# Altium schematic symbol library MSP430G2231IPW14R.SchLib: 1 symbol
Pins are listed as number, name and electrical type; pins without a type are passive.

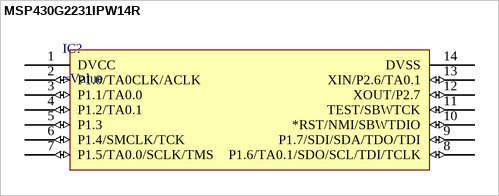
[diagram p0: symbol MSP430G2231IPW14R]

## MSP430G2231IPW14R
designator IC?
=Description
pins: 1 DVCC (power), 2 P1.0/TA0CLK/ACLK (io), 3 P1.1/TA0.0 (io), 4 P1.2/TA0.1 (io), 5 P1.3 (io), 6 P1.4/SMCLK/TCK (io), 7 P1.5/TA0.0/SCLK/TMS (io), 8 P1.6/TA0.1/SDO/SCL/TDI/TCLK (io), 9 P1.7/SDI/SDA/TDO/TDI (io), 10 *RST/NMI/SBWTDIO (io), 11 TEST/SBWTCK (io), 12 XOUT/P2.7 (io), 13 XIN/P2.6/TA0.1 (io), 14 DVSS (power)